# Altium schematic symbol library 74LVC2G241DP,125.SchLib: 1 symbol
Pins are listed as number, name and electrical type; pins without a type are passive.

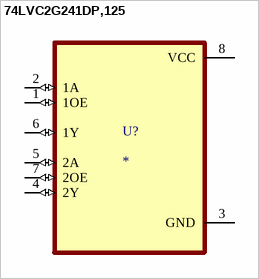
[diagram p0: symbol 74LVC2G241DP,125]

## 74LVC2G241DP,125
designator U?
MF: {'manufacturer': u'NXP Semiconductors'}; MP: 74LVC2G241DP,125; Availability: Unavailable; Price: None; Value: *; Package: None
footprint SOP65P490X110-8N
pins: 1 1OE (io), 2 1A (io), 3 GND (power), 4 2Y (io), 5 2A (io), 6 1Y (io), 7 2OE (io), 8 VCC (power)